# Altium schematic symbol library SCH-MCU-WCH-CH32F203RBT6-LQFP64M-10x10.SchLib: 1 symbol
Pins are listed as number, name and electrical type; pins without a type are passive.

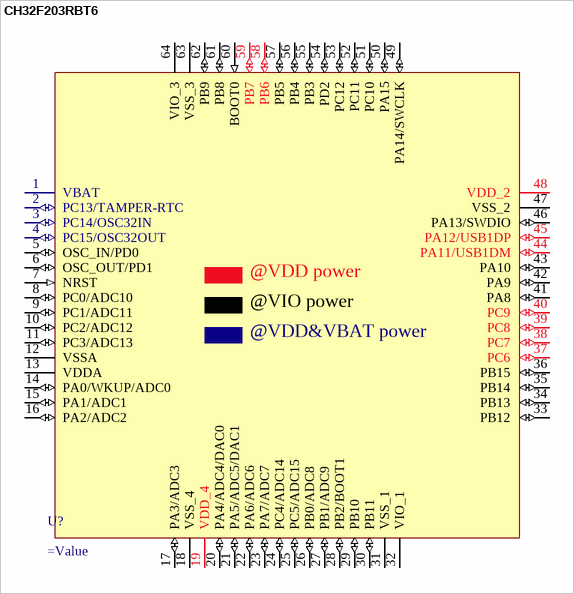
[diagram p0: symbol CH32F203RBT6]

## CH32F203RBT6
designator U?
pins: 1 VBAT (power), 2 PC13/TAMPER-RTC (io), 3 PC14/OSC32IN (io), 4 PC15/OSC32OUT (io), 5 OSC_IN/PD0 (io), 6 OSC_OUT/PD1 (io), 7 NRST (in), 8 PC0/ADC10 (io), 9 PC1/ADC11 (io), 10 PC2/ADC12 (io), 11 PC3/ADC13 (io), 12 VSSA (power), 13 VDDA (power), 14 PA0/WKUP/ADC0 (io), 15 PA1/ADC1 (io), 16 PA2/ADC2 (io), 17 PA3/ADC3 (io), 18 VSS_4 (power), 19 VDD_4 (power), 20 PA4/ADC4/DAC0 (io), 21 PA5/ADC5/DAC1 (io), 22 PA6/ADC6 (io), 23 PA7/ADC7 (io), 24 PC4/ADC14 (io), 25 PC5/ADC15 (io), 26 PB0/ADC8 (io), 27 PB1/ADC9 (io), 28 PB2/BOOT1 (io), 29 PB10 (io), 30 PB11 (io), 31 VSS_1 (power), 32 VIO_1 (power), 33 PB12 (io), 34 PB13 (io), 35 PB14 (io), 36 PB15 (io), 37 PC6 (io), 38 PC7 (io), 39 PC8 (io), 40 PC9 (io), 41 PA8 (io), 42 PA9 (io), 43 PA10 (io), 44 PA11/USB1DM (io), 45 PA12/USB1DP (io), 46 PA13/SWDIO (io), 47 VSS_2 (power), 48 VDD_2 (power), 49 PA14/SWCLK (io), 50 PA15 (io), 51 PC10 (io), 52 PC11 (io), 53 PC12 (io), 54 PD2 (io), 55 PB3 (io), 56 PB4 (io), 57 PB5 (io), 58 PB6 (io), 59 PB7 (io), 60 BOOT0 (in), 61 PB8 (io), 62 PB9 (io), 63 VSS_3 (power), 64 VIO_3 (power)
text: @VDD power; @VIO power; @VDD&VBAT power